# Altium footprint library PCB - CONNECTOR - SAMTEC IPL1-104-01-L-S-K.PCBLIB: 1 footprints
Each footprint in its own frame and in the unit in brackets; x right, y up, seen from the top. Pads: shape width x height; smd on the part's side, far side on the other; paste and mask are expansions set on the pad; w line width, h text height; cw(c..) or ccw(c..) is an arc to the next point about the centre after c.
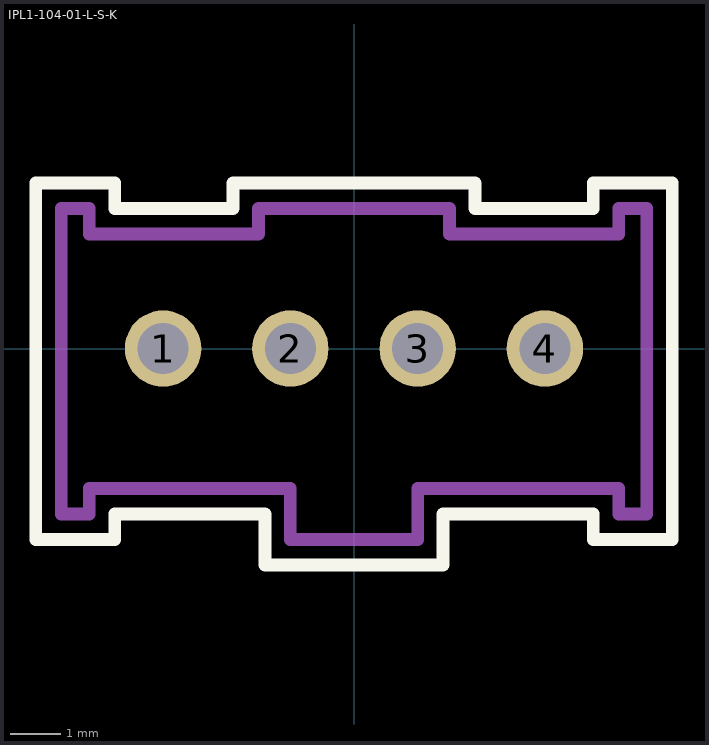
[diagram p0: the footprint, top view; thin cyan lines are the x and y axes]

## IPL1-104-01-L-S-K [mil]
pads (4):
  round 60 hole 40 mask+3: 1(-150,0) 2(-50,0) 3(50,0) 4(150,0)
Top Overlay:
  lines w10: -250,-150 -188,-150 -188,-130 -70,-130 -70,-170 70,-170 70,-130 188,-130 188,-150 250,-150 250,130 188,130 188,110 95,110 95,130 -95,130 -95,110 -188,110 -188,130 -250,130 -250,-150
M5 Assembly Top:
  lines w10: -230,-130 -208,-130 -208,-110 -50,-110 -50,-150 50,-150 50,-110 208,-110 208,-130 230,-130 230,110 208,110 208,90 75,90 75,110 -75,110 -75,90 -208,90 -208,110 -230,110 -230,-130
  text ".Designator" at -94.49,-55.12 h60
3D body "IPL1-104-01-L-S-K.stp": height 320, standoff -120, extent -230,-150 230,110